# Altium schematic symbol library Signetik-passives.SchLib: 477 symbols (part 3 of 3)
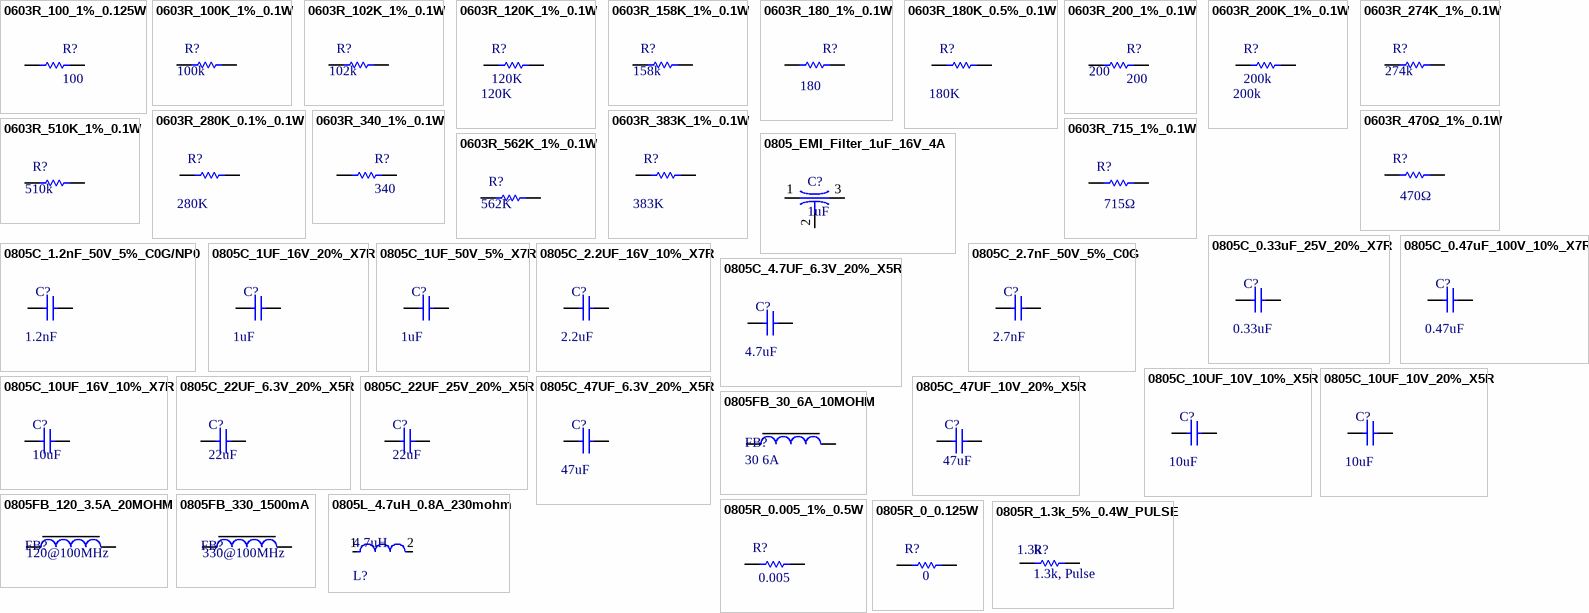
[diagram p13: symbols 0603R_100_1%_0.125W to 0805R_1.3k_5%_0.4W_PULSE]

## 0603R_100_1%_0.125W
designator R?, comment 100
RES SMD 100 OHM 1% 1/8W 0603; MPN: RNCP0603FTD100R; Mfg: Stackpole Electronics Inc; Unit Cost, Qty 1: $0.10; Unit Cost, Qty 500: $0.025; Value: 100
footprint 0603_RES (0603 (1608) SMD Resistor)
pins: 1, 2

## 0603R_100K_1%_0.1W
designator R?, comment 100k
RES SMD 100K OHM 1% 1/10W 0603; MPN: RC0603FR-07100KL; Component Description: Resistor 100K ohm 1% 0.1W 0603; Mfg: Yageo; Unit Cost, Qty 1: $0.10; Unit Cost, Qty 500: $0.00316; Value: 100k
footprint 0603_RES (0603 (1608) SMD Resistor)
pins: 1, 2

## 0603R_102K_1%_0.1W
designator R?, comment 102k
RES SMD 102K OHM 0.1% 1/10W 0603; MPN: RT0603BRD07102KL; Mfg: Yageo; Unit Cost, Qty 1: $0.10; Unit Cost, Qty 500: $0.00316; Component Description: RES SMD 102K OHM 0.1% 1/10W 0603; Value: 102k
footprint 0603_RES (0603 (1608) SMD Resistor)
pins: 1, 2

## 0603R_120K_1%_0.1W
designator R?, comment 120K
120 kOhms ±1% 0.1W, 1/10W Chip Resistor 0603 (1608 Metric) Moisture Resistant Thick Film; MPN: RC0603FR-07120KL; Mfg: Yageo; Unit Cost, Qty 1: $0.10; Unit Cost, Qty 500: $0.00316; Component Description: 120 kOhms ±1% 0.1W, 1/10W Chip Resistor 0603 (1608 Metric) Moisture Resistant Thick Film; Value: 120K
footprint 0603_RES (0603 (1608) SMD Resistor)
pins: 1, 2

## 0603R_158K_1%_0.1W
designator R?, comment 158k
RES SMD 158K OHM 1% 1/10W 0603; MPN: RC0603FR-07158KL; Component Description: Resistor 158k ohm 1% 0.1W 0603; Mfg: Yageo; Unit Cost, Qty 1: $0.10; Unit Cost, Qty 500: $0.00316; Value: 158k
footprint 0603_RES (0603 (1608) SMD Resistor)
pins: 1, 2

## 0603R_180_1%_0.1W
designator R?, comment 180
RES SMD 180 OHM 1% 1/10W 0603; MPN: RC0603FR-07180RL; Component Description: Resistor 180 ohm 1% 0.1W 0603; Mfg: Yageo; Unit Cost, Qty 1: $0.10; Unit Cost, Qty 500: $0.0057; Value: 180
footprint 0603_RES (0603 (1608) SMD Resistor)
pins: 1, 2

## 0603R_180K_0.5%_0.1W
designator R?, comment 180K
RES SMD 180K OHM 0.5% 1/10W 0603; MPN: RT0603DRD07180KL; Mfg: Yageo; Unit Cost, Qty 1: $0.10; Unit Cost, Qty 500: $0.00316; Component Description: RES SMD 180K OHM 0.5% 1/10W 0603; Value: 180K
footprint 0603_RES (0603 (1608) SMD Resistor)
pins: 1, 2

## 0603R_200_1%_0.1W
designator R?, comment 200
RES SMD 200 OHM 1% 1/10W 0603; MPN: RC0603FR-07200RL; Component Description: Resistor 200 ohm 1% 0.1W 0603; Mfg: Yageo; Unit Cost, Qty 1: $0.10; Unit Cost, Qty 500: $0.00332; Value: 200
footprint 0603_RES (0603 (1608) SMD Resistor)
pins: 1, 2

## 0603R_200K_1%_0.1W
designator R?, comment 200k
RES SMD 200K OHM 1% 1/10W 0603; MPN: RC0603FR-07200KL; Component Description: Resistor 200k ohm 1% 0.1W 0603; Mfg: Yageo; Unit Cost, Qty 1: $0.10; Unit Cost, Qty 500: $0.00316; Value: 200k
footprint 0603_RES (0603 (1608) SMD Resistor)
pins: 1, 2

## 0603R_274K_1%_0.1W
designator R?, comment 274k
RES SMD 274K OHM 1% 1/10W 0603; MPN: RC0603FR-07274KL; Mfg: Yageo; Component Description: Resistor 274K ohm 1% 0.1W 0603; Unit Cost, Qty 1: $0.10; Unit Cost, Qty 500: $0.00316; Value: 274k
footprint 0603_RES (0603 (1608) SMD Resistor)
pins: 1, 2

## 0603R_280K_0.1%_0.1W
designator R?, comment 280K
RES SMD 280K OHM 0.1% 1/10W 0603; MPN: RT0603BRD07280KL; Mfg: Yageo; Unit Cost, Qty 1: $0.10; Unit Cost, Qty 500: $0.00316; Component Description: RES SMD 280K OHM 0.1% 1/10W 0603; Value: 280K
footprint 0603_RES (0603 (1608) SMD Resistor)
pins: 1, 2

## 0603R_340_1%_0.1W
designator R?, comment 340
RES SMD 340 OHM 1% 1/10W 0603; MPN: RC0603FR-07340RL; Mfg: Yageo; Unit Cost, Qty 1: $0.10; Unit Cost, Qty 500: $0.0094; Value: 340
footprint 0603_RES (0603 (1608) SMD Resistor)
pins: 1, 2

## 0603R_383K_1%_0.1W
designator R?, comment 383K
RES SMD 383K OHM 1% 1/10W 0603; MPN: RC0603FR-07383KL; Mfg: Yageo; Unit Cost, Qty 1: $0.10; Unit Cost, Qty 500: $0.00316; Component Description: RES SMD 383K OHM 1% 1/10W 0603; Value: 383K
footprint 0603_RES (0603 (1608) SMD Resistor)
pins: 1, 2

## 0603R_470Ω_1%_0.1W
designator R?, comment 470Ω
RES SMD 470 OHM 0.1% 1/10W 0603; MPN: RT0603BRB07470RL; Mfg: Yageo; Unit Cost, Qty 1: $0.10; Unit Cost, Qty 500: $0.00316; Component Description: RES SMD 470 OHM 0.1% 1/10W 0603; Value: 470Ω
footprint 0603_RES (0603 (1608) SMD Resistor)
pins: 1, 2

## 0603R_510K_1%_0.1W
designator R?, comment 510k
RES 510K OHM 1% 1/10W 0603; MPN: RMCF0603FT510K; Mfg: Stackpole Electronics Inc; Unit Cost, Qty 1: $0.10; Unit Cost, Qty 500: $0.00316; Component Description: RES 510K OHM 1% 1/10W 0603; Value: 510k
footprint 0603_RES (0603 (1608) SMD Resistor)
pins: 1, 2

## 0603R_562K_1%_0.1W
designator R?, comment 562K
Thick Film Resistors - SMD 562kOhms 1/10W 0603 1% AEC-Q200; MPN: AC0603FR-07562KL; Mfg: YAGEO; Unit Cost, Qty 1: $0.10; Unit Cost, Qty 500: $0.00316; Component Description: Thick Film Resistors - SMD 562kOhms 1/10W 0603 1% AEC-Q200; Value: 562K
footprint 0603_RES (0603 (1608) SMD Resistor)
pins: 1, 2

## 0603R_715_1%_0.1W
designator R?, comment 715Ω
RES SMD 715 OHM 1% 1/10W 0603; MPN: RC0603FR-07715RL; Mfg: Yageo; Component Description: RES 715 Ohm ±1% 0.1W 0603; Unit Cost, Qty 1: $0.10; Unit Cost, Qty 500: $0.00316; Value: 715Ω
footprint 0603_RES (0603 (1608) SMD Resistor)
pins: 1, 2

## 0805_EMI_Filter_1uF_16V_4A
designator C?, comment 1uF
1µF Feed Through Capacitor 16V 4A 20mOhm 0805 3Pad; MPN: NFM21PC105B1C3D; Mfg: Murata; Value: 1uF
footprint 0805 3 Pad (0805 3 Pad Feed Through Capacitor)
pins: 1 (power) "Source", 2 (power) "Source", 3 (power) "Source"

## 0805C_0.33uF_25V_20%_X7R
designator C?, comment 0.33uF
CAP CER 0.33uF 25V X7R 0805; MPN: CL21B334KBFVPNE; Component Description: Capacitor 0.33uF 25V 20% X7R 0805; Mfg: Samsung; Value: 0.33uF
footprint 0805_CAP_NP (0805 (2012) SMD Capacitor Non Polarized)
pins: 1, 2

## 0805C_0.47uF_100V_10%_X7R
designator C?, comment 0.47uF
CAP CER 0.47UF 100V X7R 0805; MPN: GRM21BR72A474KA73L; Mfg: Murata Electronics; Component Description: CAP CER 0.47UF 100V X7R 0805; Value: 0.47uF
footprint 0805_CAP_NP (0805 (2012) SMD Capacitor Non Polarized)
pins: 1, 2

## 0805C_1.2nF_50V_5%_C0G/NP0
designator C?, comment 1.2nF
CAP CER 1200PF 50V C0G/NP0 0805; MPN: CL21C122JBFNNN; Mfg: Samsung Electro-Mechanics; Component Description: CAP CER 1200PF 50V C0G/NP0 0805; Value: 1.2nF
footprint 0805_CAP_NP (0805 (2012) SMD Capacitor Non Polarized)
pins: 1, 2

## 0805C_1UF_16V_20%_X7R
designator C?, comment 1uF
CAP CER 1UF 16V X7R 0805; MPN: GRM21BR71C105MA01L; Component Description: Capacitor 1UF 16V 20% X7R 0805; Mfg: Murata; Unit Cost, Qty 1: $0.19; Unit Cost, Qty 500: $0.04554; Value: 1uF
footprint 0805_CAP_NP (0805 (2012) SMD Capacitor Non Polarized)
pins: 1, 2

## 0805C_1UF_50V_5%_X7R
designator C?, comment 1uF
CAP CER 1UF 50V X7R 0805; MPN: CC0805JKX7R9BB105; Mfg: Yageo; Unit Cost, Qty 1: $0.19; Unit Cost, Qty 500: $0.04554; Component Description: CAP CER 1UF 50V X7R 0805; Value: 1uF
footprint 0805_CAP_NP (0805 (2012) SMD Capacitor Non Polarized)
pins: 1, 2

## 0805C_2.2UF_16V_10%_X7R
designator C?, comment 2.2uF
CAP CER 2.2UF 16V X7R 0805; MPN: GRM21BR71C225KA12L; Component Description: Capacitor 2.2UF 16V 10% X7R 0805; Mfg: Murata; Unit Cost, Qty 1: $0.19; Unit Cost, Qty 500: $0.04554; Value: 2.2uF
footprint 0805_CAP_NP (0805 (2012) SMD Capacitor Non Polarized)
pins: 1, 2

## 0805C_2.7nF_50V_5%_C0G
designator C?, comment 2.7nF
C Series 0805 2.7 nF 50 V ±5 % Tolerance C0G SMT Multilayer Ceramic Capacitor; MPN: C2012C0G1H272J060AA; Mfg: TDK; Component Description: C Series 0805 2.7 nF 50 V ±5 % Tolerance C0G SMT Multilayer Ceramic Capacitor; Value: 2.7nF
footprint 0805_CAP_NP (0805 (2012) SMD Capacitor Non Polarized)
pins: 1, 2

## 0805C_4.7UF_6.3V_20%_X5R
designator C?, comment value 4.7uF  (hidden comment: 47uF)
4.7 µF ±20% 6.3V Ceramic Capacitor X5R 0805 (2012 Metric); MPN: 08056D475MAT2A; Mfg: KYOCERA AVX; Unit Cost, Qty 1: $0.38; Unit Cost, Qty 500: $0.12
footprint 0805_CAP_NP (0805 (2012) SMD Capacitor Non Polarized)
pins: 1, 2

## 0805C_10UF_10V_10%_X5R
designator C?, comment 10uF
Capacitor 10UF 10V 10% X5R 0805; MPN: C0805C106K8PACTU; Mfg: Kemet; Unit Cost, Qty 1: $0.16; Unit Cost, Qty 500: $0.0356; Value: 10uF
footprint 0805_CAP_NP (0805 (2012) SMD Capacitor Non Polarized)
pins: 1, 2

## 0805C_10UF_10V_20%_X5R
designator C?, comment 10uF
Capacitor 10UF 10V 10% X5R 0805; MPN: C2012X5R1A106M125AB; ALT MPN: C2012X5R1V106M085AC; Mfg: TDK; ALT Mfg: TDK Corporation; TemperatureRange: -55°C ~ 85°C; Tolerance: ±20%; Value: 10uF
footprint 0805_CAP_NP (0805 (2012) SMD Capacitor Non Polarized)
pins: 1, 2

## 0805C_10UF_16V_10%_X7R
designator C?, comment 10uF
Capacitor 10UF 16V 10% X7R 0805; MPN: EMK212BB7106KG-T; Mfg: Taiyo Yuden; Unit Cost, Qty 1: $0.34; Unit Cost, Qty 500: $0.152; Value: 10uF
footprint 0805_CAP_NP (0805 (2012) SMD Capacitor Non Polarized)
pins: 1, 2

## 0805C_22UF_6.3V_20%_X5R
designator C?, comment 22uF
Capacitor 22UF 6.3V 20% X5R 0805; MPN: GRM21BR60J226ME39K; Mfg: Murata; Unit Cost, Qty 1: $0.50; Unit Cost, Qty 500: $0.152; Value: 22uF
footprint 0805_CAP_NP (0805 (2012) SMD Capacitor Non Polarized)
pins: 1, 2

## 0805C_22UF_25V_20%_X5R
designator C?, comment 22uF
Capacitor 22UF 25V 20% X5R 0805; MPN: GRT21BR61E226ME13L; Mfg: Murata; Unit Cost, Qty 1: $0.63; Unit Cost, Qty 500: $0.22; Value: 22uF
footprint 0805_CAP_NP (0805 (2012) SMD Capacitor Non Polarized)
pins: 1, 2

## 0805C_47UF_6.3V_20%_X5R
designator C?, comment 47uF
0805 47 uF 6.3 V ±20% Tolerance X5R Multilayer Ceramic Chip Capacitor; MPN: GRM21BR60J476ME15L; Mfg: Murata; Unit Cost, Qty 1: $0.38; Unit Cost, Qty 500: $0.12; Value: 47uF
footprint 0805_CAP_NP (0805 (2012) SMD Capacitor Non Polarized)
pins: 1, 2

## 0805C_47UF_10V_20%_X5R
designator C?, comment 47uF
Capacitor 47UF 10V 20% X5R 0805; MPN: GRM21BR61A476ME15L; Mfg: Murata; Unit Cost, Qty 1: $0.82; Unit Cost, Qty 500: $0.33; Value: 47uF
footprint 0805_CAP_NP (0805 (2012) SMD Capacitor Non Polarized)
pins: 1, 2

## 0805FB_30_6A_10MOHM
designator FB?, comment 30 6A
Ferrite bead 30 ohm @100MHz 6A 10mOhm 0805; MPN: MPZ2012S300ATD25; Mfg: TDK; Unit Cost, Qty 1: $0.13; Unit Cost, Qty 500: $0.04178; Value: 30 6A
footprint 0805_FB (Chip Ferrite, 2-Leads, Body 2.00x1.20mm, IPC Medium Density)
pins: 1, 2

## 0805FB_120_3.5A_20MOHM
designator FB?, comment value 120@100MHz  (hidden comment: Ferrite bead 120@100MHz 3.5A)
Ferrite bead 120 ohm @100MHz 3.5A 20mOhm 0805; MPN: HI0805O121R-10; Mfg: Laird; Unit Cost, Qty 1: $0.11; Unit Cost, Qty 500: $0.034
footprint 0805_FB (Chip Ferrite, 2-Leads, Body 2.00x1.20mm, IPC Medium Density)
pins: 1, 2

## 0805FB_330_1500mA
designator FB?, comment 330@100MHz
Ferrite Bead 330 Ohms @ 100MHz 1500mA 70mOhm 0805; MPN: BLM21PG331SH1D; Mfg: Murata; Unit Cost, Qty 1: $0.17; Unit Cost, Qty 500: $0.056; Value: 330@100MHz
footprint 0805_FB (Chip Ferrite, 2-Leads, Body 2.00x1.20mm, IPC Medium Density)
pins: 1, 2

## 0805L_4.7uH_0.8A_230mohm
designator L?, comment 4.7uH
4.7µH Shielded Multilayer Inductor 800mA 230mOhm 0805 (2012 Metric); MPN: LQM21PZ4R7MGRD; MFG: Murata Electronics
footprint 0805_IND
pins: 1, 2

## 0805R_0.005_1%_0.5W
designator R?, comment 0.005
RES SMD 0.005 OHM 1% 1/2W 0805; MPN: CRF0805-FZ-R005ELF; Component Description: Resistor 0.005 ohm 1% 0.5W 0805; Mfg: Bourns; Unit Cost, Qty 1: $0.50; Unit Cost, Qty 500: $0.11782; Value: 0.005
footprint 0805_RES (0805 (2012) SMD Resistor)
pins: 1, 2

## 0805R_0_0.125W
designator R?, comment 0
RES SMD 0 OHM 1% 1/8W 0805; MPN: RC0805JR-070RL; Mfg: Yageo; Unit Cost, Qty 1: $0.10; Unit Cost, Qty 500: $0.00436; Component Description: RES SMD 0 OHM 1% 1/8W 0805; Value: 0
footprint 0805_RES (0805 (2012) SMD Resistor)
pins: 1, 2

## 0805R_1.3k_5%_0.4W_PULSE
designator R?, comment 1.3k, Pulse  value 1.3k
RES SMD 1.3k OHM Pulse 5% 0.4W 0805; MPN: ESR10EZPJ132; Component Description: Resistor 1.3k ohm 5% 0.4W 0805; Mfg: Rohm; Unit Cost, Qty 1: $0.10; Unit Cost, Qty 500: $0.0333
footprint 0805_RES (0805 (2012) SMD Resistor)
pins: 1, 2

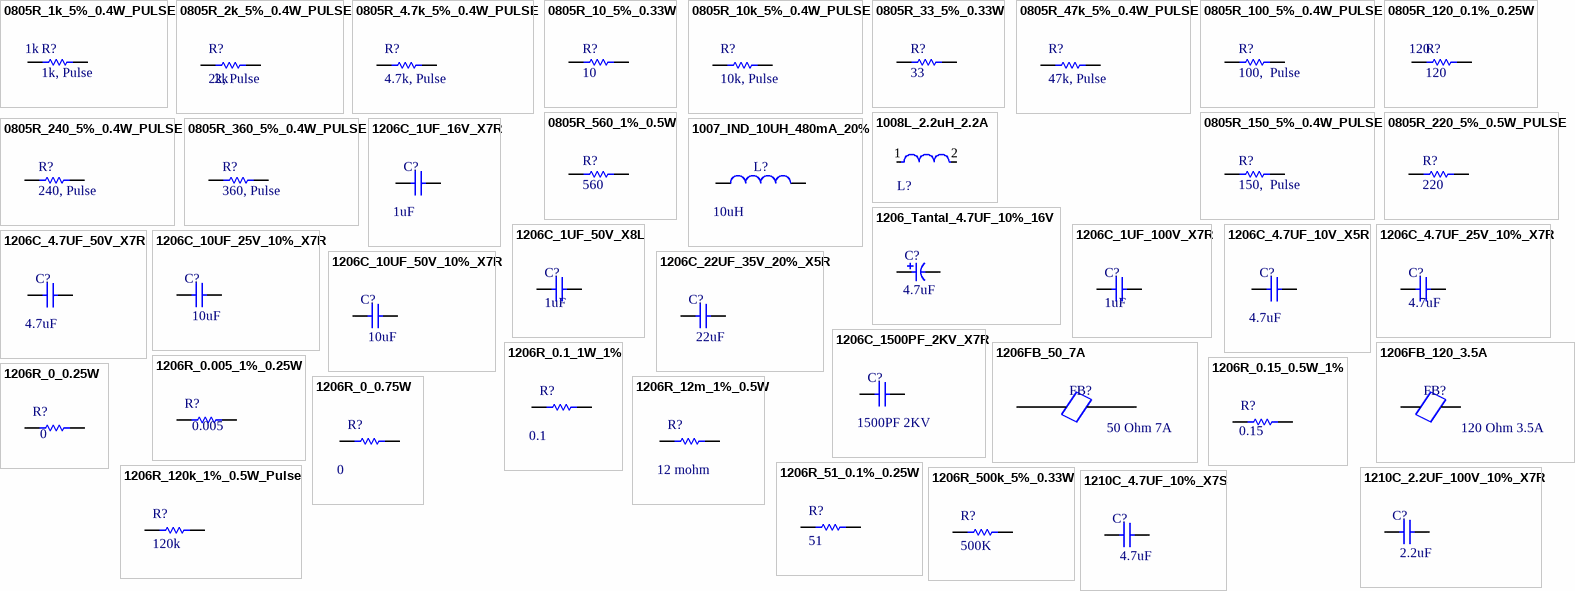
[diagram p10: symbols 0805R_1k_5%_0.4W_PULSE to 1210C_4.7UF_10%_X7S]

## 0805R_1k_5%_0.4W_PULSE
designator R?, comment 1k, Pulse  value 1k
RES SMD 1k OHM Pulse 5% 0.4W 0805; MPN: ESR10EZPJ102; Component Description: Resistor 1k ohm 5% 0.4W 0805; Mfg: Rohm; Unit Cost, Qty 1: $0.10; Unit Cost, Qty 500: $0.0333
footprint 0805_RES (0805 (2012) SMD Resistor)
pins: 1, 2

## 0805R_2k_5%_0.4W_PULSE
designator R?, comment 2k, Pulse  value 2k
RES SMD 2k OHM Pulse 5% 0.4W 0805; MPN: ESR10EZPJ202; Component Description: Resistor 2k ohm 5% 0.4W 0805; Mfg: Rohm; Unit Cost, Qty 1: $0.10; Unit Cost, Qty 500: $0.0333
footprint 0805_RES (0805 (2012) SMD Resistor)
pins: 1, 2

## 0805R_4.7k_5%_0.4W_PULSE
designator R?, comment 4.7k, Pulse
RES SMD 4.7k OHM Pulse 5% 0.4W 0805; MPN: ESR10EZPJ472; Component Description: Resistor 4.7k ohm 5% 0.4W 0805 pulse; Mfg: Rohm; Unit Cost, Qty 1: $0.10; Unit Cost, Qty 500: $0.0333; Value: 4.7k
footprint 0805_RES (0805 (2012) SMD Resistor)
pins: 1, 2

## 0805R_10_5%_0.33W
designator R?, comment 10
RES SMD 10 OHM 5% 1/3W 0805; MPN: CRGH0805J10R; Mfg: TE; Unit Cost, Qty 1: $0.10; Unit Cost, Qty 500: $0.0333; Component Description: RES SMD 10 OHM 5% 1/3W 0805; Value: 10
footprint 0805_RES (0805 (2012) SMD Resistor)
pins: 1, 2

## 0805R_10k_5%_0.4W_PULSE
designator R?, comment 10k, Pulse
RES SMD 10k OHM Pulse 5% 0.4W 0805; MPN: ESR10EZPJ103; Component Description: Resistor 10k ohm 5% 0.4W 0805 pulse; Mfg: Rohm; Unit Cost, Qty 1: $0.10; Unit Cost, Qty 500: $0.0333; Value: 10k
footprint 0805_RES (0805 (2012) SMD Resistor)
pins: 1, 2

## 0805R_33_5%_0.33W
designator R?, comment 33
RES 33 OHM 5% 1/8W 0805; MPN: RC0805JR-0733RL; Component Description: RES SMD 10 OHM 5% 1/3W 0805; Mfg: YAGEO; Unit Cost, Qty 1: $0.10; Unit Cost, Qty 500: $0.0333; Value: 33
footprint 0805_RES (0805 (2012) SMD Resistor)
pins: 1, 2

## 0805R_47k_5%_0.4W_PULSE
designator R?, comment 47k, Pulse
RES SMD 47k OHM Pulse 5% 0.4W 0805; MPN: ESR10EZPJ473; Component Description: Resistor 47k ohm 5% 0.4W 0805 pulse; Mfg: Rohm; Unit Cost, Qty 1: $0.10; Unit Cost, Qty 500: $0.0333; Value: 47k
footprint 0805_RES (0805 (2012) SMD Resistor)
pins: 1, 2

## 0805R_100_5%_0.4W_PULSE
designator R?, comment 100,  Pulse
RES SMD 100 OHM Pulse 5% 0.4W 0805; MPN: ESR10EZPJ101; Component Description: Resistor 100 ohm 5% 0.4W 0805 Pulse; Mfg: Rohm; Unit Cost, Qty 1: $0.10; Unit Cost, Qty 500: $0.0333; Value: 100
footprint 0805_RES (0805 (2012) SMD Resistor)
pins: 1, 2

## 0805R_120_0.1%_0.25W
designator R?, comment 120
RES SMD 120 OHM 0.1% 1/8W 0805; MPN: RT0805BRD07120RL; Mfg: Yageo; Unit Cost, Qty 1: $0.10; Unit Cost, Qty 500: $0.0333; Component Description: RES SMD 120 OHM 0.1% 1/8W 0805; Value: 120
footprint 0805_RES (0805 (2012) SMD Resistor)
pins: 1, 2

## 0805R_150_5%_0.4W_PULSE
designator R?, comment 150,  Pulse
RES SMD 150 OHM Pulse 5% 0.4W 0805; MPN: ESR10EZPJ151; Component Description: Resistor 150 ohm 5% 0.4W 0805 Pulse; Mfg: Rohm; Unit Cost, Qty 1: $0.10; Unit Cost, Qty 500: $0.0333; Value: 150
footprint 0805_RES (0805 (2012) SMD Resistor)
pins: 1, 2

## 0805R_220_5%_0.5W_PULSE
designator R?, comment 220
RES SMD 220 OHM 1% 1/2W 0805; MPN: CRCW0805220RFKEAHP; Mfg: Vishay Dale; Unit Cost, Qty 1: $0.13; Unit Cost, Qty 500: $0.0333; Value: 220
footprint 0805_RES (0805 (2012) SMD Resistor)
pins: 1, 2

## 0805R_240_5%_0.4W_PULSE
designator R?, comment 240, Pulse
RES SMD 240 OHM Pulse 5% 0.4W 0805; MPN: ESR10EZPJ241; Component Description: Resistor 240 ohm 5% 0.4W 0805; Mfg: Rohm; Unit Cost, Qty 1: $0.10; Unit Cost, Qty 500: $0.0333; Value: 240
footprint 0805_RES (0805 (2012) SMD Resistor)
pins: 1, 2

## 0805R_360_5%_0.4W_PULSE
designator R?, comment 360, Pulse
RES SMD 360 OHM Pulse 5% 0.4W 0805; MPN: ERJ-P06J361V; Component Description: Resistor 360 ohm 5% 0.4W 0805 Pulse; Mfg: Panasonic; Unit Cost, Qty 1: $0.12; Unit Cost, Qty 500: $0.0429; Value: 360
footprint 0805_RES (0805 (2012) SMD Resistor)
pins: 1, 2

## 0805R_560_1%_0.5W
designator R?, comment 560
RES 560 OHM 1% 1/2W 0805; MPN: CRCW0805560RFKEAHP; Mfg: Vishay/Dale; Unit Cost, Qty 1: $0.28; Unit Cost, Qty 500: $0.09; Value: 560
footprint 0805_RES (0805 (2012) SMD Resistor)
pins: 1, 2

## 1007_IND_10UH_480mA_20%
designator L?, comment 10uH
FIXED IND 10UH 680MA 468 MOHM; MPN: CBC2518T100M; Component Description: Inductor Unshielded Wirewound 10µH  680mA 468 mOhm Max 1007; Mfg: Taiyo Yuden; Unit Cost, Qty 1: $0.17; Unit Cost, Qty 500: $0.084; Value: 10uH
footprint 1007_IND (1007 (2518) Inductor)
pins: 1, 2

## 1008L_2.2uH_2.2A
designator L?, comment 2.2uH  (value not drawn)
FIXED IND 2.2UH 2.2A 84 MOHM SMD; MPN: DFE252012P-2R2M=P2; MFG: Murata Electronics; Value: 2.2uH
footprint Murata_DFE252012C_MFG
pins: 1, 2

## 1206_Tantal_4.7UF_10%_16V
designator C?, comment 4.7uF
CAP TANT 4.7UF 10% 16V 1206; MPN: T491A475K016AT; Mfg: KEMET; Component Description: 4.7µF Molded Tantalum Capacitors 16V 1206 (3216 Metric) 4 Ohm; Unit Cost, Qty 1: $0.41; Unit Cost, Qty 500: $0.11; Value: 4.7uF
footprint CAPT1206(3216)18 (Chip Capacitor, Body 3.2x1.6mm, Height 1.7mm, IPC Low Density)
pins: 1, 2

## 1206C_1UF_16V_X7R
designator C?, comment 1uF
CAP CER 1UF 16V X7R 1206; MPN: GRM319R71C105KAA3D; Mfg: Murata; Unit Cost, Qty 1: $0.25; Unit Cost, Qty 500: $0.06826; Component Desctription: CAP CER 1UF 16V X7R 1206; Value: 1uF
footprint 1206_CAP_NP (1206 (3216) SMD Capacitor Non Polarized)
pins: 1, 2

## 1206C_1UF_50V_X8L
designator C?, comment 1uF
CAP CER 1UF 50V X8L 1206; MPN: GCM31CL81H105KA55L; Mfg: Murata; Component Desctription: CAP CER 1UF 50V X8L 1206; Value: 1uF
footprint 1206_CAP_NP (1206 (3216) SMD Capacitor Non Polarized)
pins: 1, 2

## 1206C_1UF_100V_X7R
designator C?, comment 1uF
CAP CER 1UF 100V X7R 1206; MPN: CC1206KKX7R0BB105; Mfg: Yageo; Unit Cost, Qty 1: $0.41; Unit Cost, Qty 500: $0.14; Component Desctription: CAP CER 1UF 100V X7R 1206; Value: 1uF
footprint 1206_CAP_NP (1206 (3216) SMD Capacitor Non Polarized)
pins: 1, 2

## 1206C_4.7UF_10V_X5R
designator C?, comment 4.7uF
47 µF ±10% 10V Ceramic Capacitor X5R 1206 (3216 Metric); MPN: GRM31CR61A476KE15L; Mfg: Murata Electronics; Unit Cost, Qty 1: $0.24; Unit Cost, Qty 500: $0.067; Component Description: 47 µF ±10% 10V Ceramic Capacitor X5R 1206 (3216 Metric); Value: 4.7uF
footprint 1206_CAP_NP (1206 (3216) SMD Capacitor Non Polarized)
pins: 1, 2

## 1206C_4.7UF_25V_10%_X7R
designator C?, comment 4.7uF
CAP CER 4.7UF 25V X7R 1206; MPN: C1206C475K3RACTU; Mfg: Kemet; Unit Cost, Qty 1: $0.32; Unit Cost, Qty 500: $0.099; Value: 4.7uF
footprint 1206_CAP_NP (1206 (3216) SMD Capacitor Non Polarized)
pins: 1, 2

## 1206C_4.7UF_50V_X7R
designator C?, comment 4.7uF
Cap 4.7µF ±10% 50V X7R 1206; MPN: UMK316AB7475KL-T; Mfg: Taiyo Yuden; Component Description: Capacitor Ceramic 4.7µF ±10% 50V X7R 1206; Unit Cost, Qty 1: $0.24; Unit Cost, Qty 500: $0.067; Value: 4.7uF
footprint 1206_CAP_NP (1206 (3216) SMD Capacitor Non Polarized)
pins: 1, 2

## 1206C_10UF_25V_10%_X7R
designator C?, comment 10uF
CAP CER 10UF 25V X7R 1206; MPN: CL31B106KAHNNNE; Component Description: Capacitor 10µF ±10% 25V X7R 1206; Mfg: Samsung; Unit Cost, Qty 1: $0.24; Unit Cost, Qty 500: $0.05632; Value: 10uF
footprint 1206_CAP_NP (1206 (3216) SMD Capacitor Non Polarized)
pins: 1, 2

## 1206C_10UF_50V_10%_X7R
designator C?, comment 10uF
Capacitor 10uF 10% 50V X7R 1206; MPN: CL31B106KBHNNNE; Mfg: Samsung; Unit Cost, Qty 1: $0.31; Unit Cost, Qty 500: $0.13; Value: 10uF
footprint 1206_CAP_NP (1206 (3216) SMD Capacitor Non Polarized)
pins: 1, 2

## 1206C_22UF_35V_20%_X5R
designator C?, comment 22uF
Capacitor 22uF 20% 35V X5R 1206; MPN: C3216X5R1V226M160AC; Mfg: TDK; Unit Cost, Qty 1: $1.01; Unit Cost, Qty 500: $0.45; Value: 22uF
footprint 1206_CAP_NP (1206 (3216) SMD Capacitor Non Polarized)
pins: 1, 2

## 1206C_1500PF_2KV_X7R
designator C?, comment 1500PF 2KV
1500 pF ±10% 2000V (2kV) Ceramic Capacitor X7R 1206 (3216 Metric); MPN: CC1206KKX7RDBB152; Mfg: Murata; Unit Cost, Qty 1: $0.25; Unit Cost, Qty 500: $0.06826; Component Desctription: 1500 pF ±10% 2000V (2kV) Ceramic Capacitor X7R 1206 (3216 Metric); Value: 1500PF 2KV
footprint 1206_CAP_NP (1206 (3216) SMD Capacitor Non Polarized)
pins: 1, 2

## 1206FB_50_7A
designator FB?, comment value 50 Ohm 7A  (hidden comment: 50 ohm)
FERRITE BEAD 50 OHM 7A 1206; MPN: BLM31SN500SN1L; Mfg: Murata
footprint 1206_FB (1206 (3216) SMD Ferrite Bead)
pins: 1, 2

## 1206FB_120_3.5A
designator FB?, comment value 120 Ohm 3.5A  (hidden comment: 120 ohm)
FERRITE BEAD 120 OHM 3.5A 20mohm 1206; MPN: BLM31PG121SN1L; Mfg: Murata; Unit Cost, Qty 1: $0.31; Unit Cost, Qty 500: $0.12
footprint 1206_FB (1206 (3216) SMD Ferrite Bead)
pins: 1, 2

## 1206R_0.1_1W_1%
designator R?, comment value 0.1  (hidden comment: 0.1,1%,1W,100ppm)
RES 0.1 OHM 1% 1W 1206; MPN: VSRP1206S1-R100F; Mfg: Delta Electronics/Cyntec; Unit Cost, Qty 1: $0.38; Unit Cost, Qty 500: $0.07496; Component Description: RES 0.1 OHM 1% 1W 1206
footprint 1206_RES (1206 (3216) SMD Resistor)
pins: 1, 2

## 1206R_0.005_1%_0.25W
designator R?, comment 0.005
RES 0.005 OHM 1% 1/4W 1206; MPN: WSL12065L000FEA; Mfg: Vishay Dale; Unit Cost, Qty 1: $0.10; Unit Cost, Qty 500: $0.00598; Value: 0.005
footprint 1206_RES (1206 (3216) SMD Resistor)
pins: 1, 2

## 1206R_0.15_0.5W_1%
designator R?, comment value 0.15  (hidden comment: RES 0.15 OHM 1% 1/2W 1206)
150 mOhms ±1% 0.5W, 1/2W Chip Resistor 1206 (3216 Metric) Automotive AEC-Q200, Current Sense Thick Film; MPN: ERJ-8BSFR15V; Mfg: Panasonic Electronic Components; Unit Cost, Qty 1: $0.38; Unit Cost, Qty 500: $0.07496; Component Description: 150 mOhms ±1% 0.5W, 1/2W Chip Resistor 1206 (3216 Metric) Automotive AEC-Q200, Current Sense Thick Film
footprint 1206_RES (1206 (3216) SMD Resistor)
pins: 1, 2

## 1206R_0_0.25W
designator R?, comment 0
RES SMD 0.0 OHM JUMPER 1/4W 1206; MPN: RC1206JR-070RL; Component Description: Resistor 0.0 Ohm Jumper 0.25W, 1/4W 1206; Mfg: Yageo; Unit Cost, Qty 1: $0.10; Unit Cost, Qty 500: $0.00598; Value: 0
footprint 1206_RES (1206 (3216) SMD Resistor)
pins: 1, 2

## 1206R_0_0.75W
designator R?, comment 0
RES SMD 0.0 OHM JUMPER 3/4W 1206; MPN: CRCW12060000Z0EAHP; Component Description: Resistor 0.0 Ohm Jumper 0.75W 1206; Mfg: Vishay Dale; Unit Cost, Qty 1: $0.38; Unit Cost, Qty 500: $0.07496; Value: 0
footprint 1206_RES (1206 (3216) SMD Resistor)
pins: 1, 2

## 1206R_12m_1%_0.5W
designator R?, comment 12 mohm
Resistor 12 mOhm 1% 0.5W 1206; MPN: CSR1206FK12L0; Mfg: Stackpole Electronics; Unit Cost, Qty 1: $0.62; Unit Cost, Qty 500: $0.16; Value: 12 mohm
footprint 1206_RES (1206 (3216) SMD Resistor)
pins: 1, 2

## 1206R_51_0.1%_0.25W
designator R?, comment 51
RES SMD 51 OHM 0.1% 1/4W 1206; MPN: ERA-8AEB510V; Mfg: Panasonic; Unit Cost, Qty 1: $0.66; Unit Cost, Qty 500: $0.13; Value: 51
footprint 1206_RES (1206 (3216) SMD Resistor)
pins: 1, 2

## 1206R_120k_1%_0.5W_Pulse
designator R?, comment 120k
RES SMD 120k OHM 1% 1/2W Pulse 1206; MPN: CRGP1206F120K; Mfg: TE Connectivity; Unit Cost, Qty 1: $0.31; Unit Cost, Qty 500: $0.10; Value: 120k
footprint 1206_RES (1206 (3216) SMD Resistor)
pins: 1, 2

## 1206R_500k_5%_0.33W
designator R?, comment 500K
RES 500K OHM 5% 1/3W 1206; MPN: HVCB1206JDL500K; Mfg: Stackpole Electronics Inc; Unit Cost, Qty 1: $0.31; Unit Cost, Qty 500: $0.10; Value: 500K
footprint 1206_RES (1206 (3216) SMD Resistor)
pins: 1, 2

## 1210C_2.2UF_100V_10%_X7R
designator C?, comment 2.2uF
CAP CER 2.2UF 100V 10% X7R 1210; MPN: CL32B225KCJSNNE; Component Description: Capacitor  2.2µF ±10% 100V X7R 1210; Mfg: Samsung; Unit Cost, Qty 1: $0.56; Unit Cost, Qty 500: $0.192; Value: 2.2uF
footprint 1210_CAP_NP (1210 (3225) SMD Capacitor Non Polarized)
pins: 1, 2

## 1210C_4.7UF_10%_X7S
designator C?, comment value 4.7uF  (hidden comment: 4.7uF/100V)
CAP CER 4.7UF 100V X7S 1210; MPN: HMK325C7475KN-TE; Component Description: Capacitor  4.7µF ±10% 100V X7S 1210; Mfg: Taiyo Yuden; Unit Cost, Qty 1: $0.93; Unit Cost, Qty 500: $0.44
footprint 1210_CAP_NP (1210 (3225) SMD Capacitor Non Polarized)
pins: 1, 2

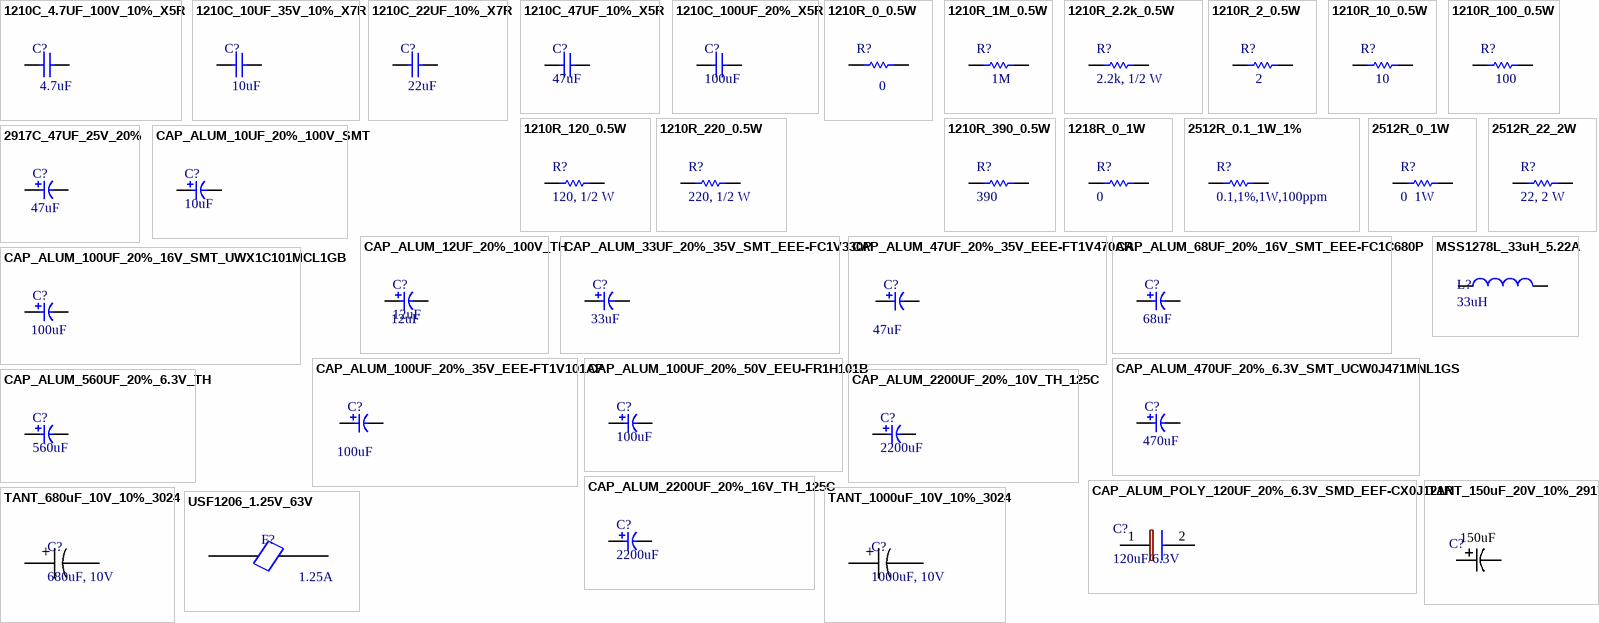
[diagram p11: symbols 1210C_4.7UF_100V_10%_X5R to USF1206_1.25V_63V]

## 1210C_4.7UF_100V_10%_X5R
designator C?, comment value 4.7uF  (hidden comment: 4.7uF/100V)
CAP CER 4.7UF 100V X5R 1210; MPN: HMK325BJ475KM-PE; Mfg: Taiyo Yuden; Unit Cost, Qty 1: $0.93; Unit Cost, Qty 500: $0.44; Component Description: CAP CER 4.7UF 100V X5R 1210
footprint 1210_CAP_NP (1210 (3225) SMD Capacitor Non Polarized)
pins: 1, 2

## 1210C_10UF_35V_10%_X7R
designator C?, comment 10uF
10 µF ±10% 35V Ceramic Capacitor X7R 1210 (3225 Metric); MPN: GMJ325KB7106MMHP; Component Description: 10 µF ±20% 35V Ceramic Capacitor X7R 1210 (3225 Metric); Mfg: Taiyo Yuden; Unit Cost, Qty 1: $0.92; Unit Cost, Qty 500: $0.34416; Value: 10uF
footprint 1210_CAP_NP (1210 (3225) SMD Capacitor Non Polarized)
pins: 1, 2

## 1210C_22UF_10%_X7R
designator C?, comment 22uF
CAP CER 22UF 25V X7R 1210; MPN: GRM32ER71E226KE15L; Component Description: Capacitor  22µF ±10% 25V X7R 1210; Mfg: Murata; Unit Cost, Qty 1: $0.92; Unit Cost, Qty 500: $0.34416; Value: 22uF
footprint 1210_CAP_NP (1210 (3225) SMD Capacitor Non Polarized)
pins: 1, 2

## 1210C_47UF_10%_X5R
designator C?, comment 47uF
CAP CER 47UF 16V X5R 1210; MPN: GRM32ER61C476KE15L; Mfg: Murata; Unit Cost, Qty 1: $1.17; Unit Cost, Qty 500: $0.52; Value: 47uF
footprint 1210_CAP_NP (1210 (3225) SMD Capacitor Non Polarized)
pins: 1, 2

## 1210C_100UF_20%_X5R
designator C?, comment 100uF
CAP CER 100UF 20% 10V X5R 1210; MPN: GRM32ER61A107ME20L; Mfg: Murata; Unit Cost, Qty 1: $1.33; Unit Cost, Qty 500: $0.5944; Value: 100uF
footprint 1210_CAP_NP (1210 (3225) SMD Capacitor Non Polarized)
pins: 1, 2

## 1210R_0_0.5W
designator R?, comment 0
RES SMD 0.0 OHM JUMPER 0.5W 1210; MPN: CRCW12100000Z0EA; Component Description: Resistor 0.0 Ohm Jumper 0.5W 1210; Mfg: Vishay Dale; Unit Cost, Qty 1: $0.21; Unit Cost, Qty 500: $0.0429; Value: 0
footprint 1210_RES (1210 (3225) SMD Resistor)
pins: 1, 2

## 1210R_1M_0.5W
designator R?, comment 1M
RES SMD 1M OHM 0.5W 1210 PULSE; MPN: ERJ-P14J105U; Component Description: Resistor 1M Ohm 0.5W 1210; Mfg: Panasonic; Unit Cost, Qty 1: $0.30; Unit Cost, Qty 500: $0.099; Value: 1M
footprint 1210_RES (1210 (3225) SMD Resistor)
pins: 1, 2

## 1210R_2.2k_0.5W
designator R?, comment 2.2k, 1/2 W
RES SMD 2.2k OHM 0.5W 1210 PULSE; MPN: ERJ-P14J222U; Component Description: Resistor 2.2k Ohm 0.5W 1210; Mfg: Panasonic; Unit Cost, Qty 1: $0.30; Unit Cost, Qty 500: $0.099
footprint 1210_RES (1210 (3225) SMD Resistor)
pins: 1, 2

## 1210R_2_0.5W
designator R?, comment value 2  (hidden comment: 10)
RES 2 OHM 1% 1/2W 1210; MPN: RMCF1210FT2R00; Mfg: Stackpole Electronics Inc; Unit Cost, Qty 1: $0.30; Unit Cost, Qty 500: $0.099; Component Description: RES 2 OHM 1% 1/2W 1210
footprint 1210_RES (1210 (3225) SMD Resistor)
pins: 1, 2

## 1210R_10_0.5W
designator R?, comment 10
RES SMD 10 OHM 0.5W 1210 PULSE; MPN: ERJ-P14J100U; Component Description: Resistor 10 Ohm 0.5W 1210; Mfg: Panasonic; Unit Cost, Qty 1: $0.30; Unit Cost, Qty 500: $0.099; Value: 10
footprint 1210_RES (1210 (3225) SMD Resistor)
pins: 1, 2

## 1210R_100_0.5W
designator R?, comment 100
RES SMD 100 OHM 0.5W 1210 PULSE; MPN: ERJ-P14J101U; Component Description: Resistor 100 Ohm 0.5W 1210; Mfg: Panasonic; Unit Cost, Qty 1: $0.30; Unit Cost, Qty 500: $0.099; Value: 100
footprint 1210_RES (1210 (3225) SMD Resistor)
pins: 1, 2

## 1210R_120_0.5W
designator R?, comment 120, 1/2 W
RES SMD 120 OHM 0.5W 1210 PULSE; MPN: ERJ-P14J121U; Component Description: Resistor 120 Ohm 0.5W 1210; Mfg: Panasonic; Unit Cost, Qty 1: $0.30; Unit Cost, Qty 500: $0.099
footprint 1210_RES (1210 (3225) SMD Resistor)
pins: 1, 2

## 1210R_220_0.5W
designator R?, comment 220, 1/2 W
RES SMD 220 OHM 1% 1/2W 1210; MPN: AC1210FR-07220RL; Mfg: Yageo; Unit Cost, Qty 1: $0.30; Unit Cost, Qty 500: $0.099; Component Description: RES SMD 220 OHM 1% 1/2W 1210
footprint 1210_RES (1210 (3225) SMD Resistor)
pins: 1, 2

## 1210R_390_0.5W
designator R?, comment 390
CRGCQ 1210 390R 1% 0.5W; MPN: CRGCQ1210F390R; Mfg: TE Connectivity Passive Product; Unit Cost, Qty 1: $0.30; Unit Cost, Qty 500: $0.099; Component Description: CRGCQ 1210 390R 1%
footprint 1210_RES (1210 (3225) SMD Resistor)
pins: 1, 2

## 1218R_0_1W
designator R?, comment 0
RES SMD 0 OHM 1W 1218; MPN: RCL12180000Z0EK; Mfg: Vishay Dale; Unit Cost, Qty 1: $0.59; Unit Cost, Qty 500: $0.14; Value: 0
footprint 1218_RES
pins: 1, 2

## 2512R_0.1_1W_1%
designator R?, comment 0.1,1%,1W,100ppm
RES 0.1 OHM 1% 1W 2512; MPN: SR733ATTER100F; Mfg: KOA Speer Electronics, Inc.; Unit Cost, Qty 1: $0.39; Unit Cost, Qty 500: $0.076; Component Description: RES 0.1 OHM 1% 1W 2512
footprint 2512_RES
pins: 1, 2

## 2512R_0_1W
designator R?, comment 0  1W
0 Ohms Jumper 1W Chip Resistor 2512 Automotive AEC-Q200 Thick Film; MPN: CRCW25120000Z0EG; Mfg: Vishay Dale; Unit Cost, Qty 1: $0.34; Unit Cost, Qty 500: $0.069
footprint 2512_RES
pins: 1, 2

## 2512R_22_2W
designator R?, comment 22, 2 W
RES SMD 22 OHM 2W 2512; MPN: CRM2512-JW-220ELF; Mfg: Bourns; Unit Cost, Qty 1: $0.39; Unit Cost, Qty 500: $0.076; Component Description: RES SMD 22 OHM 2W 2512
footprint 2512_RES
pins: 1, 2

## 2917C_47UF_25V_20%
designator C?, comment 47uF
CAP TANT POLY 47UF 25V 2917; MPN: TCJE476M025R0050; Mfg: AVX Corp; Component Description: Capacitor Tantalum 47uF 20% 25V 50mohm 2917; Unit Cost, Qty 1: $3.09; Unit Cost, Qty 500: $1.4313; Value: 47uF
footprint 2917_CAP (2917 (7343-43 metric))
pins: 1, 2

## CAP_ALUM_10UF_20%_100V_SMT
designator C?, comment 10uF
Capacitor Aluminum Electrolytic 10UF 100V 20% SMTCAN; MPN: UUX2A100MNL1GS; Mfg: Nichicon; Unit Cost, Qty 1: $0.55; Unit Cost, Qty 500: $0.256; Value: 10uF
footprint CAP_ALUM_ELEC_8D_8.3_8.3 (Electrolytic 8mm Dia. 8.3mm x 8.3mm Polarized)
pins: 1, 2

## CAP_ALUM_12UF_20%_100V_TH
designator C?, comment 12uF
Capacitor Aluminum Electrolytic 12UF 100V 20% TH; MPN: EEU-FC2A120; Mfg: Panasonic; Unit Cost, Qty 1: $0.35; Unit Cost, Qty 500: $0.092; Value: 12uF
pins: 1, 2

## CAP_ALUM_33UF_20%_35V_SMT_EEE-FC1V330P
designator C?, comment 33uF
Capacitor Aluminum Electrolytic 33UF 35V 20% SMTCAN; MPN: EEE-FC1V330P; Mfg: Panasonic; Unit Cost, Qty 1: $0.65; Unit Cost, Qty 500: $0.22314; Value: 33uF
footprint CAP_ALUM_ELEC_8D_8.3_8.3_6.2 (Electrolytic 8mm Dia. 8.3mm x 8.3mm x 6.2mm Polarized)
pins: 1, 2

## CAP_ALUM_47UF_20%_35V_EEE-FT1V470AR
designator C?, comment 47uF
47µF 35V Aluminum Electrolytic Capacitors Radial, Can - SMD 360mOhm @ 100kHz 2000 Hrs @ 105°C; MPN: EEE-FT1V470AR; Component Description: Capacitor Aluminum 47UF 20% 35V 360mohm SMD; Mfg: Panasonic; Unit Cost, Qty 1: $0.48; Unit Cost, Qty 500: $0.17; Value: 47uF
footprint CAP_ALUM_5.3mm (Aluminum Capacitor 5.3mm x 5.3mm)
pins: 1, 2

## CAP_ALUM_68UF_20%_16V_SMT_EEE-FC1C680P
designator C?, comment 68uF
Capacitor Aluminum Electrolytic 68UF 16V 20% SMTCAN; MPN: EEE-FC1C680P; Mfg: Panasonic; Unit Cost, Qty 1: $0.65; Unit Cost, Qty 500: $0.22314; Value: 68uF
footprint CAP_ALUM_ELEC_8D_8.3_8.3_6.2 (Electrolytic 8mm Dia. 8.3mm x 8.3mm x 6.2mm Polarized)
pins: 1, 2

## CAP_ALUM_100UF_20%_16V_SMT_UWX1C101MCL1GB
designator C?, comment 100uF
Capacitor Aluminum Electrolytic 100UF 16V 20% SMTCAN; MPN: UWX1C101MCL1GB; Mfg: Nichicon; Unit Cost, Qty 1: $0.33; Unit Cost, Qty 500: $0.092; Value: 100uF
footprint CAP_ALUM_ELEC_6.3D_6.6_6.6 (Electrolytic 6.3mm Dia. 6.6mm x 6.6mm Polarized)
pins: 1, 2

## CAP_ALUM_100UF_20%_35V_EEE-FT1V101AP
designator C?, comment 100uF
100µF 35V Aluminum Electrolytic Capacitors Radial, Can - SMD 260mOhm @ 100kHz 2000 Hrs @ 105°C; MPN: EEE-FT1V101AP; Component Description: Capacitor Aluminum 100UF 20% 35V 260 mOhm SMD; Mfg: Panasonic; Unit Cost, Qty 1: $0.56; Unit Cost, Qty 500: $0.19; Value: 100uF
pins: 1, 2

## CAP_ALUM_100UF_20%_50V_EEU-FR1H101B
designator C?, comment 100uF
100µF 50V Aluminum Electrolytic Capacitors Radial 61mOhm@100kHz 6000Hrs@105°C; MPN: EEU-FR1H101B; Mfg: Panasonic; Unit Cost, Qty 1: $0.50; Unit Cost, Qty 500: $0.17; Value: 100uF
footprint CAP_ALUM_ELEC_TH 197mil Lead Space (Capacitor Aluminum Electrolytic 315mil Dia. 512mil Ht. 197mil lead space)
pins: 1, 2

## CAP_ALUM_470UF_20%_6.3V_SMT_UCW0J471MNL1GS
designator C?, comment 470uF
Capacitor Aluminum Electrolytic 470UF 6.3V 20% SMTCAN; MPN: UCW0J471MNL1GS; Mfg: Nichicon; Unit Cost, Qty 1: $0.74; Unit Cost, Qty 500: $0.35; Value: 470uF
footprint CAP_ALUM_ELEC_8D_8.3_8.3 (Electrolytic 8mm Dia. 8.3mm x 8.3mm Polarized)
pins: 1, 2

## CAP_ALUM_560UF_20%_6.3V_TH
designator C?, comment 560uF
Capacitor Aluminum Electrolytic 560UF 6.3V 20% TH; MPN: EEU-FM0J561; Mfg: Panasonic; Unit Cost, Qty 1: $0.42; Unit Cost, Qty 500: $0.133; Value: 560uF
footprint CAP_ALUM_ELEC_TH (Capacitor Aluminum Electrolytic 315mil Dia. 512mil Ht.)
pins: 1, 2

## CAP_ALUM_2200UF_20%_10V_TH_125C
designator C?, comment 2200uF
Capacitor Aluminum Electrolytic 2200uF 10V 20% TH, 10k hrs @ 125C; MPN: UBT1A222MHD; Mfg: Nichicon; Value: 2200uF
pins: 1, 2

## CAP_ALUM_2200UF_20%_16V_TH_125C
designator C?, comment 2200uF
Capacitor Aluminum Electrolytic 2200uF 16V 20% TH, 10k hrs @ 125C; MPN: UBT1C222MHD; Mfg: Nichicon; Value: 2200uF
pins: 1, 2

## CAP_ALUM_POLY_120UF_20%_6.3V_SMD_EEF-CX0J121R
designator C?, comment 120uF/6.3V
120µF 6.3V Aluminum - Polymer Capacitors 2917 (7343 Metric) 15mOhm 2000 Hrs @ 105°C; MPN: EEF-CX0J121R; MFG: Panasonic; Datasheet Link: http://industrial.panasonic.com/www-cgi/jvcr13pz.cgi?E+PZ+3+ABE0009+EEFCX0J121R+7+WW; Height: 2mm
footprint CAP_EEFCX0J121R
pins: 1 +, 2 -

## MSS1278L_33uH_5.22A
designator L?, comment 33uH
Inductor 33uH 5.22A 62mohm 12mm x 12mm; MPN: MSS1278-333MLD; Mfg: CoilCraft; Unit Cost, Qty 1: $1.18; Unit Cost, Qty 500: $0.83; Value: 33uH
footprint IND_MSS1278 (Inductor MSS1278 484mil x 484mil)
pins: 1, 2

## TANT_150uF_20V_10%_2917
designator C?, comment value 150uF  (hidden comment: T491X157K020AT)
150µF Molded Tantalum Capacitors 20V 2917 (7343 Metric) 500mOhm; MFG: Kemet; SourceLibrary: Kemet_2020-03-25_3; Built_By: EMA_Frank; Source_Library: Kemet_2020-03-25_3.xlr; MPN: T491X157K020AT; Copyright: Copyright (C) 2018 Accelerated Designs. All rights reserved
footprint CAPMP7.6X4.3_4.3N_KEM
footprint CAPMP7.6X4.3_4.3N_KEM
pins: 1, 2

## TANT_680uF_10V_10%_3024
designator C?, comment 680uF, 10V
Capacitor, Tantalum, 1000uF, 10V, 10%, 3024; MPN: 597D687X9010R2T
pins: 1, 2
text: +

## TANT_1000uF_10V_10%_3024
designator C?, comment 1000uF, 10V
Capacitor, Tantalum, 1000uF, 10V, 10%, 3024; MPN: 597D108X9010F2T
pins: 1, 2
text: +

## USF1206_1.25V_63V
designator F?, comment value 1.25A  (hidden comment: 50 ohm)
1.25A 32V AC 63V DC Fuse Board Mount (Cartridge Style Excluded) Surface Mount 1206 (3216 Metric); MPN: 3413.0116.22; Mfg: Schurter Inc.
footprint USF1206 (1206 (3216) SMD Ferrite Bead)
pins: 1, 2